# Altium footprint library CMR_PCB_Components.PcbLib: 26 footprints (part 2 of 2)
Each footprint in its own frame and in the unit in brackets; x right, y up, seen from the top. Pads: shape width x height; smd on the part's side, far side on the other; paste and mask are expansions set on the pad; w line width, h text height; cw(c..) or ccw(c..) is an arc to the next point about the centre after c.
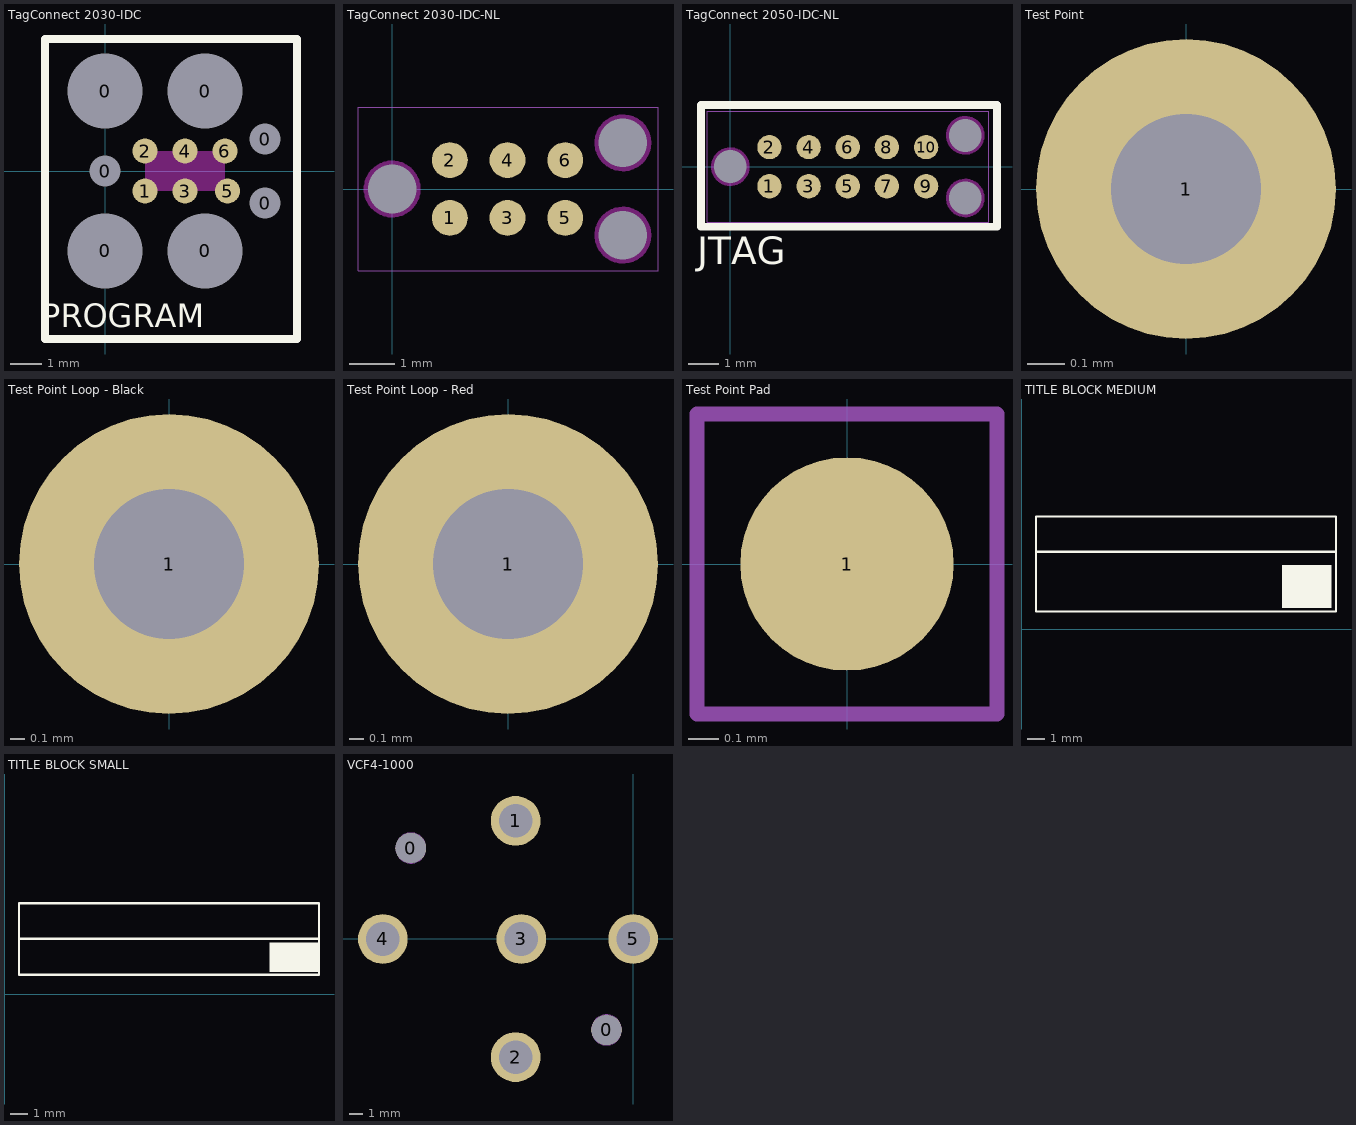
[diagram p1: the footprints below, top view; thin cyan lines are the x and y axes]

## TagConnect 2030-IDC [mm] "Tag-Connect 6-Pin with Legs (PN# TC2030-IDC-NL)"
pads (13):
  round 2.3 hole 2.375 unplated: 0(0,-2.54) 0(0,2.54) 0(3.175,-2.54) 0(3.175,2.54)
  round 0.9 hole 0.995 unplated: 0(0,0) 0(5.08,-1.016) 0(5.08,1.016)
  round 0.79 smd paste-0.39: 1(1.27,-0.635) 2(1.27,0.635) 3(2.54,-0.635) 4(2.54,0.635) 5(3.89,-0.635) 6(3.81,0.635)
Top Overlay:
  lines w0.254: -1.905,-5.334 6.096,-5.334 6.096,4.191 0,4.191 -1.905,4.191 -1.905,-5.334
  text "PROGRAM" at -2.032,-5.207 h1.27
Keep-Out Layer:
  rectangle: 1.27,-0.635 3.81,0.635

## TagConnect 2030-IDC-NL [mm] "Tag-Connect 6-Pin with No Legs (PN# TC2030-IDC-NL)"
pads (9):
  round 0 hole 1.067 unplated: 0(0,0) 0(5.08,-1.016) 0(5.08,1.016)
  round 0.79 smd paste-0.39: 1(1.27,-0.635) 2(1.27,0.635) 3(2.54,-0.635) 4(2.54,0.635) 5(3.81,-0.635) 6(3.81,0.635)
Keep-Out Layer:
  circle w0.254: c5.08,-1.016 r0.5
  circle w0.254: c5.08,1.016 r0.5
  circle w0.254: c0,0 r0.5
Mechanical 15:
  lines w0.02: -0.75,-1.8 5.85,-1.8 5.85,1.8 -0.75,1.8 -0.75,-1.8

## TagConnect 2050-IDC-NL [mm] "Tag-Connect 10-Pin with No Legs (PN# TC2050-IDC-NL)"
pads (13):
  round 0 hole 1.067 unplated: 0(0,0) 0(7.62,-1.016) 0(7.62,1.016)
  round 0.79 smd paste-0.39: 1(1.27,-0.635) 2(1.27,0.635) 3(2.54,-0.635) 4(2.54,0.635) 5(3.81,-0.635) 6(3.81,0.635) 7(5.08,-0.635) 8(5.08,0.635) 9(6.35,-0.635) 10(6.35,0.635)
Top Overlay:
  lines w0.254: -0.95,-1.95 8.65,-1.95 8.65,2 -0.95,2 -0.95,-1.95
  text "JTAG" at -1.08,-3.45 h1.52
Keep-Out Layer:
  circle w0.254: c0,0 r0.5
  circle w0.254: c7.62,1.016 r0.5
  circle w0.254: c7.62,-1.016 r0.5
Mechanical 15:
  lines w0.02: -0.75,-1.8 -0.75,1.8 8.39,1.8 8.39,-1.8 -0.75,-1.8

## Test Point [mil] "Test Point"
pads (1):
  round 32 hole 16: 1(0,0)

## Test Point Loop - Black [mil] ", black"
pads (1):
  round 80 hole 40: 1(0,0)
3D body "keystone-PN5001.STEP": height 180, standoff -120, extent -50,-50 50,50

## Test Point Loop - Red [mil] ", red"
pads (1):
  round 80 hole 40: 1(0,0)
3D body "keystone-PN5000.STEP": height 180, standoff -120, extent -50,-49.99 50,50.01

## Test Point Pad [mil] "Test Point, Pad, 28mil"
pads (1):
  round 28 smd: 1(0,0)
Mechanical 15:
  lines w1.97: -19.68,-19.68 -19.68,19.68 19.68,19.68 19.68,-19.68 -19.68,-19.68

## TITLE BLOCK MEDIUM [mil] "Medium title block"
Top Overlay:
  rectangle: 588,48 700,145
  lines w5: 32,177 32,255 710,255 710,40 32,40 32,192 ; 35,175 710,175
  text ".PrjPcbPn" at 340,50 h80
  text ".PrjTitle" at 52,187 h90
  text ".PrjEngineer" at 45,120 h70
  text ".PrjRev" at 40,45 h70

## TITLE BLOCK SMALL [mil] "Small title block"
Top Overlay:
  rectangle: 598,50 710,117
  lines w5: 32,127 32,205 710,205 710,151.25 710,43.75 32,43.75 32,142 ; 35,125 710,125
  text ".PrjRev" at 530,120 h50
  text ".PrjEngineer" at 40,70 h50
  text ".PrjTitle" at 50,140 h70
  text ".PrjPcbPn" at 400,60 h80

## VCF4-1000 [mil]
pads (7):
  round 85 hole 85 unplated: 0(-625.98,255.9) 0(-74.8,-255.91)
  round 140 hole 95: 1(-330.7,332.67) 2(-330.7,-332.68) 3(-314.95,0) 4(-704.72,0) 5(0,0)
Mechanical 2:
  circle w0.5: c-625.98,255.9 r42.5
  circle w0.5: c-74.8,-255.91 r42.5
  circle w0.5: c-330.7,332.67 r47.5
  circle w0.5: c-330.7,-332.68 r47.5
  circle w0.5: c0.01,0 r47.5
  circle w0.5: c-704.72,0 r47.5
  circle w0.5: c-314.95,0 r47.5
3D body: height 688.63, standoff -284.68, extent -314.95,0 -314.95,0
3D body "c-1393310-3-b-3d.STEP": height 570.87, standoff -234.13, extent -899.68,-472.43 143.32,472.44
3D body "c-1-1393302-0-b-3d-relay.STEP": height 2232.28, standoff 137.8, extent -1177.16,-551.18 122.05,551.18